# Altium footprint library Hotels_Lock_Main_V1.PcbLib: 28 footprints (part 2 of 2)
Each footprint in its own frame and in the unit in brackets; x right, y up, seen from the top. Pads: shape width x height; smd on the part's side, far side on the other; paste and mask are expansions set on the pad; w line width, h text height; cw(c..) or ccw(c..) is an arc to the next point about the centre after c.
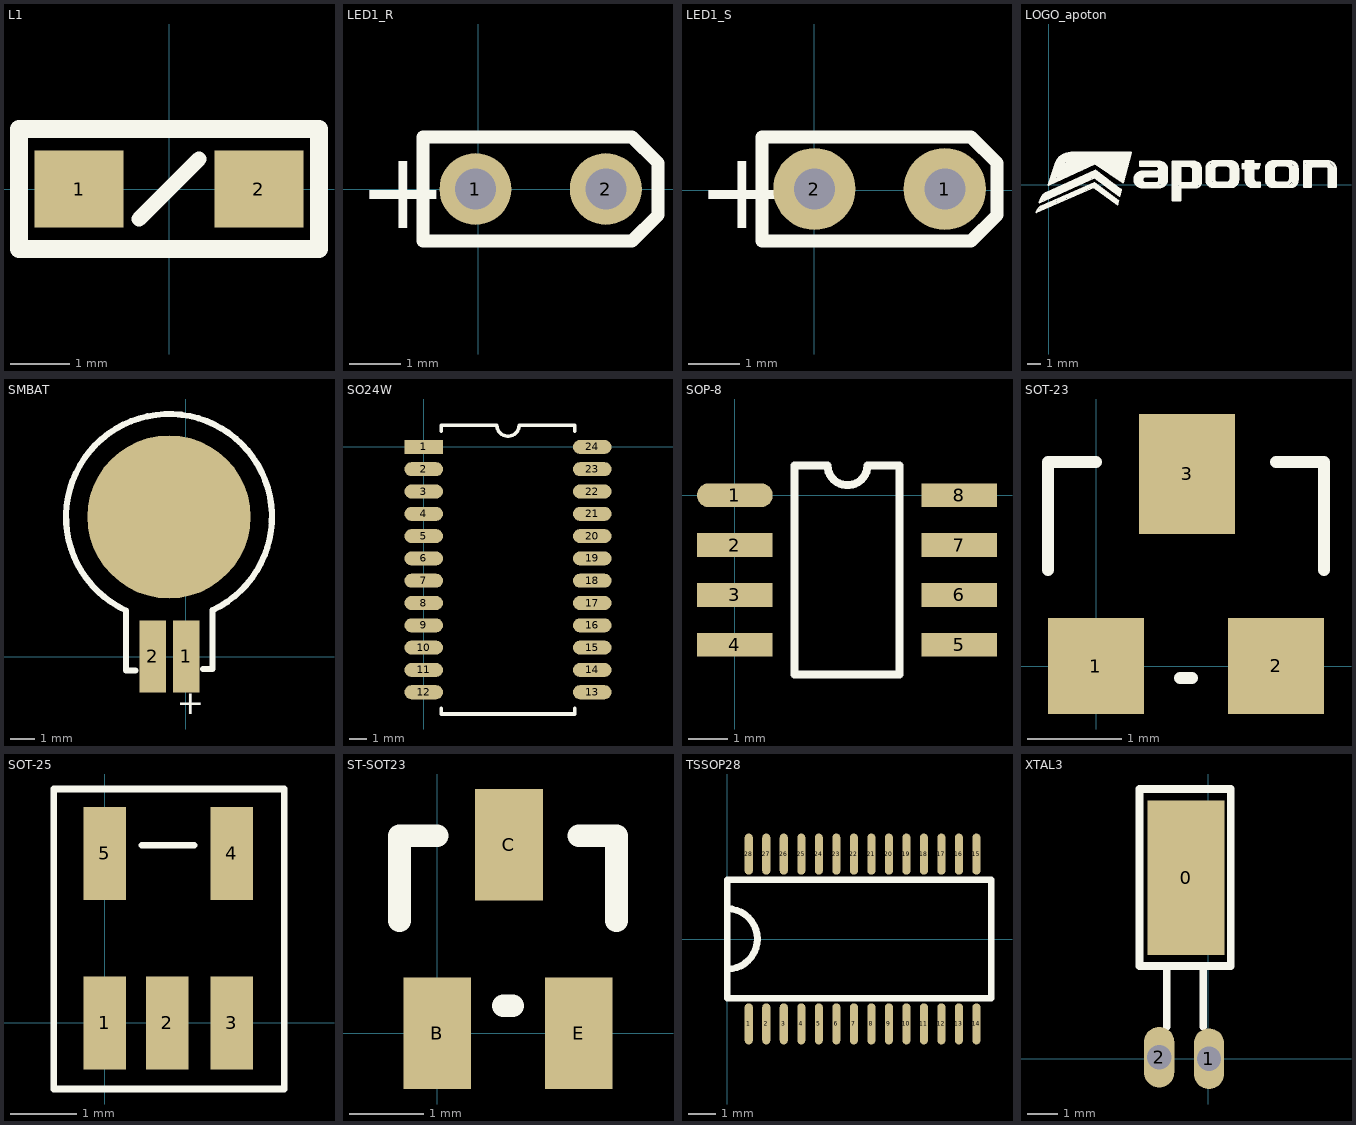
[diagram p1: the footprints below, top view; thin cyan lines are the x and y axes]

## L1 [mm]
pads (2):
  rect 1.5x1.3 smd: 1(-1.524,0) 2(1.524,0)
Top Overlay:
  lines w0.254: -0.508,-0.508 0.508,0.508
  lines w0.3: -2.54,-1.016 -2.54,1.016 2.54,1.016 2.54,-1.016 -2.54,-1.016

## LED1_R [mm]
pads (2):
  round 1.4 hole 0.8: 1(-0.051,0) 2(2.489,0)
Top Overlay:
  lines w0.254: -1.067,-1.016 2.997,-1.016 3.505,-0.508 3.505,0.508 2.997,1.016 -1.067,1.016 -1.067,-1.016
  text "+" at -2.337,-0.762 h1.52

## LED1_S [mm]
pads (2):
  round 1.6 hole 0.8: 1(2.54,0.025) 2(0,0.025)
Top Overlay:
  lines w0.254: -1.016,-0.991 3.048,-0.991 3.556,-0.483 3.556,0.533 3.048,1.041 -1.016,1.041 -1.016,-0.991
  text "+" at -2.286,-0.737 h1.52

## LOGO_apoton [mil]
Top Overlay:
  drawing of 1220 lines, arcs and shapes, not listed

## SMBAT [mm]
pads (3):
  rect 1.1x3 smd: 1(0.012,0.009) 2(-1.388,0.009)
  round 6.8 smd: ""(-0.709,5.825)
Top Overlay:
  lines w0.254: -2.097,-0.576 -2.497,-0.576 -2.497,1.924 cw(c-0.709,5.825) 1.102,1.934 1.102,-0.516 0.702,-0.516
  text "+" at -0.388,-2.391 h1

## SO24W [mm]
pads (24):
  rect 2.2x0.8 smd: 1(0,0)
  oval 2.2x0.8 smd: 2(0,-1.27) 3(0,-2.54) 4(0,-3.81) 5(0,-5.08) 6(0,-6.35) 7(0,-7.62) 8(0,-8.89) 9(0,-10.16) 10(0,-11.43) 11(0,-12.7) 12(0,-13.97) 13(9.6,-13.97) 14(9.6,-12.7) 15(9.6,-11.43) 16(9.6,-10.16) 17(9.6,-8.89) 18(9.6,-7.62) 19(9.6,-6.35) 20(9.6,-5.08) 21(9.6,-3.81) 22(9.6,-2.54) 23(9.6,-1.27) 24(9.6,0)
Top Overlay:
  lines w0.2: 1,-14.87 1,-15.21 8.6,-15.21 8.6,-14.87 ; 1,0.9 1,1.24 4.165,1.24 ccw(c4.8,1.24) 5.435,1.24 8.6,1.24 8.6,0.9

## SOP-8 [mil]
pads (8):
  oval 76x24 smd: 1(0,0)
  rect 76x24 smd: 2(0,-50) 3(0,-100) 4(0,-150) 5(225,-150) 6(225,-100) 7(225,-50) 8(225,0)
Top Overlay:
  lines w8: 60,-180 60,30 93,30 ccw(c113,30) 133,30 165,30 165,-180 60,-180

## SOT-23 [mil]
pads (3):
  rect 40x40 smd: 1(-0.14,0.11) 2(74.87,0.11)
  rect 40x50 smd: 3(37.87,80.11)
Top Overlay:
  lines w5: -20.14,40.11 -20.14,85.11 -0.14,85.11 ; 34.86,-4.89 39.86,-4.89 ; 74.86,85.11 94.86,85.11 94.86,40.11

## SOT-25 [mil]
pads (5):
  rect 25x55 smd: 1(0,0) 2(37,0) 3(75,0) 4(75,100) 5(0,100)
Top Overlay:
  lines w4: 22.06,104.8 52.8,104.8 ; -30,-39 -30,138 106,138 106,-39 -30,-39

## ST-SOT23 [mil]
pads (3):
  rect 36x59.05 smd: B(0,0) C(38,100) E(75,0)
Top Overlay:
  lines w12: -20,59.69 -20,104.69 0,104.69 ; 35,14.69 40,14.69 ; 75,104.69 95,104.69 95,59.69

## TSSOP28 [mil]
pads (28):
  oval 11.81x60 smd: 1(31.5,-124) 2(57.09,-124) 3(82.68,-124) 4(108.27,-124) 5(133.86,-124) 6(159.45,-124) 7(185.04,-124) 8(210.63,-124) 9(236.22,-124) 10(261.81,-124) 11(287.4,-124) 12(312.99,-124) 13(338.58,-124) 14(364.17,-124) 15(364.17,124) 16(338.58,124) 17(312.99,124) 18(287.4,124) 19(261.81,124) 20(236.22,124) 21(210.63,124) 22(185.04,124) 23(159.45,124) 24(133.86,124) 25(108.27,124) 26(82.68,124) 27(57.09,124) 28(31.5,124)
Top Overlay:
  lines w10: 0,-44 ccw(c0,0.1) 0,44.2 ; 0,-86.61 0,86.61 385.83,86.61 385.83,-86.61 0,-86.61

## XTAL3 [mm]
pads (3):
  rect 2.54x5.08 smd: 0(-0.738,5.969)
  oval 1x2 hole 0.8: 1(0.018,0.012) 2(-1.622,0.06)
Top Overlay:
  lines w0.254: -1.368,1.06 -1.368,3.06 ; -0.168,1.06 -0.168,3.06 ; -2.268,3.06 0.732,3.06 0.732,8.89 -2.268,8.89 -2.268,3.06